# Altium schematic symbol library CRCW040221K0FKED.SchLib: 1 symbol
Pins are listed as number, name and electrical type; pins without a type are passive.

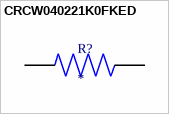
[diagram p0: symbol CRCW040221K0FKED]

## CRCW040221K0FKED
designator R?
Surface Mount Thick Film Resistor, Aec-Q200 Crcw Series, 21 Kohm, 63 Mw, - 1%, 50 V; MP: CRCW040221K0FKED; MF: {'manufacturer': u'Vishay Dale'}; Price: None; Availability: Unavailable; Value: *; Package: None
footprint RESC1005X40N
pins: 1, 2